# Altium schematic symbol library HV9961LG-G.SchLib: 1 symbol
Pins are listed as number, name and electrical type; pins without a type are passive.

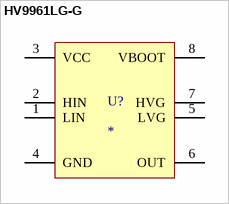
[diagram p0: symbol HV9961LG-G]

## HV9961LG-G
designator U?
8 SOIC 3.90mm(.150in) T/RLED DRIVER WITH AVERAGE-MODE CONSTANT CURRENT CONTROL | Microchip Technology Inc. HV9961LG-G; SnapEDA_Link: https://www.snapeda.com/parts/HV9961LG-G/Microchip/view-part/?ref=snap; Package: SO-8 Microchip; Value: *; MF: Microchip; MP: HV9961LG-G; Check_prices: https://www.snapeda.com/parts/HV9961LG-G/Microchip/view-part/?ref=eda
footprint SOIC127P600X175-8N
pins: 1 LIN, 2 HIN, 3 VCC, 4 GND, 5 LVG, 6 OUT, 7 HVG, 8 VBOOT